# EAGLE library part ATMEGA328P-32PIN (library my_devices)
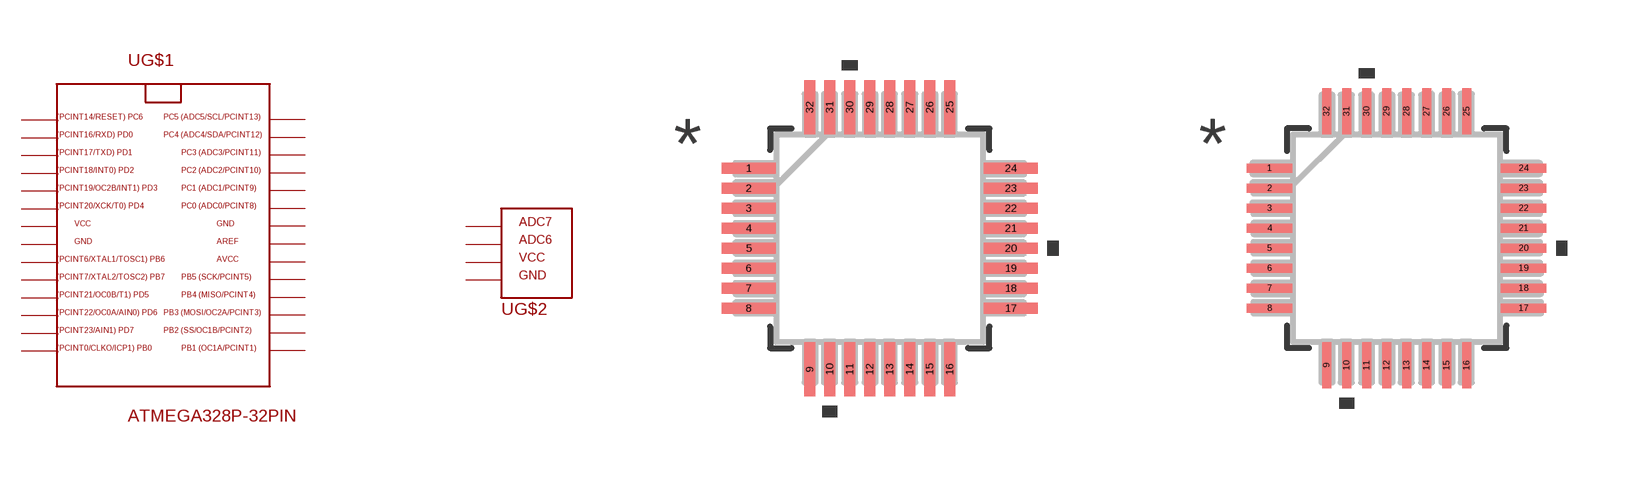
[diagram p28: symbol with the pads of 21-0110B_MXM; footprints 21-0110B_MXM, 21-0110B_MXM-L]

Designator prefix U; gates G$1=ATMEGA328P G$2=ATMEGA328P-ADD-PINS

## ATMEGA328P-32PIN  [21-0110B_MXM]
1  G$1:PD3
2  G$1:PD4
3  G$1:GND  pwr
4  G$1:VCC  pwr
5  G$2:GND
6  G$2:VCC
7  G$1:PB6
8  G$1:PB7
9  G$1:PD5
10  G$1:PD6
11  G$1:PD7
12  G$1:PB0
13  G$1:PB1
14  G$1:PB2
15  G$1:PB3
16  G$1:PB4
17  G$1:PB5
18  G$1:AVCC  pwr
19  G$2:ADC6
20  G$1:AREF
21  G$1:GND1  pwr
22  G$2:ADC7
23  G$1:PC0
24  G$1:PC1
25  G$1:PC2
26  G$1:PC3
27  G$1:PC4
28  G$1:PC5
29  G$1:PC6
30  G$1:PD0
31  G$1:PD1
32  G$1:PD2

## ATMEGA328P-32PIN21-0110B_MXM-L  [21-0110B_MXM-L]
Pads as for 21-0110B_MXM

## ATMEGA328P-32PIN21-0110B_MXM-M  [21-0110B_MXM-M]
Pads as for 21-0110B_MXM

## Footprint 21-0110B_MXM (pad centres in mm)
smd 1.346 x 0.279: 1 -3.277,1.75; 2 -3.277,1.25; 3 -3.277,0.75; 4 -3.277,0.25; 5 -3.277,-0.25; 6 -3.277,-0.75; 7 -3.277,-1.25; 8 -3.277,-1.75; 17 3.277,-1.75; 18 3.277,-1.25; 19 3.277,-0.75; 20 3.277,-0.25; 21 3.277,0.25; 22 3.277,0.75; 23 3.277,1.25; 24 3.277,1.75
smd 0.279 x 1.346: 9 -1.75,-3.277; 10 -1.25,-3.277; 11 -0.75,-3.277; 12 -0.25,-3.277; 13 0.25,-3.277; 14 0.75,-3.277; 15 1.25,-3.277; 16 1.75,-3.277; 25 1.75,3.277; 26 1.25,3.277; 27 0.75,3.277; 28 0.25,3.277; 29 -0.25,3.277; 30 -0.75,3.277; 31 -1.25,3.277; 32 -1.75,3.277

## Footprint 21-0110B_MXM-L (pad centres in mm)
smd 1.143 x 0.229: 1 -3.175,1.75; 2 -3.175,1.25; 3 -3.175,0.75; 4 -3.175,0.25; 5 -3.175,-0.25; 6 -3.175,-0.75; 7 -3.175,-1.25; 8 -3.175,-1.75; 17 3.175,-1.75; 18 3.175,-1.25; 19 3.175,-0.75; 20 3.175,-0.25; 21 3.175,0.25; 22 3.175,0.75; 23 3.175,1.25; 24 3.175,1.75
smd 0.229 x 1.143: 9 -1.75,-3.175; 10 -1.25,-3.175; 11 -0.75,-3.175; 12 -0.25,-3.175; 13 0.25,-3.175; 14 0.75,-3.175; 15 1.25,-3.175; 16 1.75,-3.175; 25 1.75,3.175; 26 1.25,3.175; 27 0.75,3.175; 28 0.25,3.175; 29 -0.25,3.175; 30 -0.75,3.175; 31 -1.25,3.175; 32 -1.75,3.175

## Footprint 21-0110B_MXM-M (pad centres in mm)
smd 1.549 x 0.279: 1 -3.378,1.75; 2 -3.378,1.25; 3 -3.378,0.75; 4 -3.378,0.25; 5 -3.378,-0.25; 6 -3.378,-0.75; 7 -3.378,-1.25; 8 -3.378,-1.75; 17 3.378,-1.75; 18 3.378,-1.25; 19 3.378,-0.75; 20 3.378,-0.25; 21 3.378,0.25; 22 3.378,0.75; 23 3.378,1.25; 24 3.378,1.75
smd 0.279 x 1.549: 9 -1.75,-3.378; 10 -1.25,-3.378; 11 -0.75,-3.378; 12 -0.25,-3.378; 13 0.25,-3.378; 14 0.75,-3.378; 15 1.25,-3.378; 16 1.75,-3.378; 25 1.75,3.378; 26 1.25,3.378; 27 0.75,3.378; 28 0.25,3.378; 29 -0.25,3.378; 30 -0.75,3.378; 31 -1.25,3.378; 32 -1.75,3.378